# Altium schematic symbol library OV5640_SCH.SchLib: 16 symbols
Pins are listed as number, name and electrical type; pins without a type are passive.

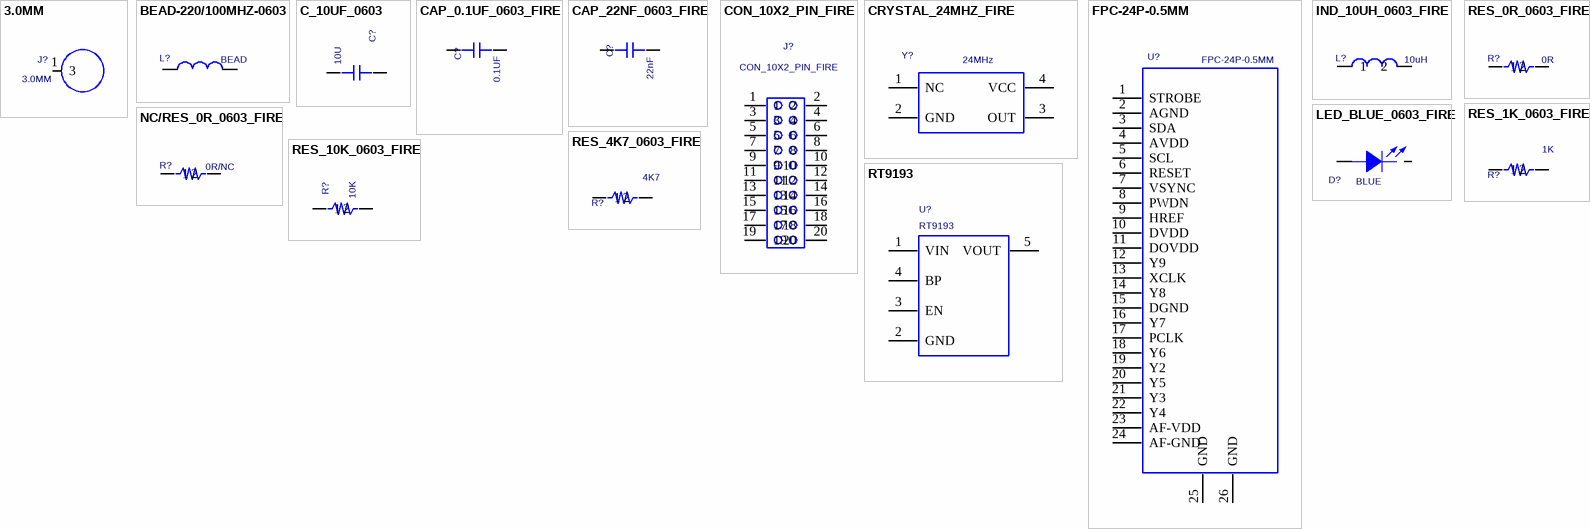
[diagram p0: symbols 3.0MM to RT9193]

## 3.0MM
designator J?
PCB DECAL: 3.0MM
footprint 3.0MM
pins: 1 3

## BEAD-220/100MHZ-0603
designator L?  value BEAD  (hidden comment: BEAD-220/100MHZ-0603)
0603,BEAD; PCB DECAL: CAP_0603_FIRE; Manufacturer #1 PN: BEAD
footprint CAP_0603_FIRE
pins: 1, 2

## C_10UF_0603
designator C?  value 10U  (hidden comment: C_10UF_0603)
PCB DECAL: CAP_0603_FIRE
footprint CAP_0603_FIRE
pins: 1, 2

## CAP_0.1UF_0603_FIRE
designator C?  value 0.1UF  (hidden comment: CAP_0.1UF_0603_FIRE)
0603; Manufacture 1 P/N: 0.1uF(0603); PCB DECAL: CAP_0603_FIRE
footprint CAP_0603_FIRE
pins: 1, 2

## CAP_22NF_0603_FIRE
designator C?  value 22nF  (hidden comment: CAP_22NF_0603_FIRE)
0603; Manufacture 1 P/N: 22nF(0603); PCB DECAL: CAP_0603_FIRE
footprint CAP_0603_FIRE
pins: 1, 2

## CON_10X2_PIN_FIRE
designator J?
10X2,pin,2.54mm; PCB DECAL: 20PIN2.54_SMD; Manufacture 1 P/N: 10X2,pin,2.54mm; Value: 10X2,pin,2.54mm
footprint 20PIN2.54_SMD
pins: 1, 2, 3, 4, 5, 6, 7, 8, 9, 10, 11, 12, 13, 14, 15, 16, 17, 18, 19, 20

## CRYSTAL_24MHZ_FIRE
designator Y?  value 24MHz  (hidden comment: CRYSTAL_24MHZ_FIRE)
24MHz; PCB DECAL: CRYSTAL_SMD3.2X2.5_FIRE; Manufacture 1 P/N: 24MHz
footprint CRYSTAL_SMD3.2X2.5_FIRE
pins: 1 NC, 2 GND, 3 OUT, 4 VCC

## FPC-24P-0.5MM
designator U?
Value: FPC-24P-OV5640; PCB DECAL: 24PIN0.5MMZUOZI2
footprint 24PIN0.5MMZUOZI2
pins: 1 STROBE, 2 AGND, 3 SDA, 4 AVDD, 5 SCL, 6 RESET, 7 VSYNC, 8 PWDN, 9 HREF, 10 DVDD, 11 DOVDD, 12 Y9, 13 XCLK, 14 Y8, 15 DGND, 16 Y7, 17 PCLK, 18 Y6, 19 Y2, 20 Y5, 21 Y3, 22 Y4, 23 AF-VDD, 24 AF-GND, 25 GND, 26 GND

## IND_10UH_0603_FIRE
designator L?  value 10uH  (hidden comment: IND_10UH_0603_FIRE)
0603; PCB DECAL: CAP_0603_FIRE; Manufacture 1 P/N: 10uH
footprint CAP_0603_FIRE
pins: 1, 2

## LED_BLUE_0603_FIRE
designator D?  value BLUE  (hidden comment: LED_BLUE_0603_FIRE)
blue,0603; PCB DECAL: LED_BLUE_0603_FIRE
footprint LED_BLUE_0603_FIRE
pins: A ANODE, K CATHODE

## NC/RES_0R_0603_FIRE
designator R?  value 0R/NC  (hidden comment: NC/RES_0R_0603_FIRE)
0603; Manufacture 1: SUPEROHM; Assembly: SMD; Tolerance: +-5%; PCB DECAL: CAP_0603_FIRE
footprint CAP_0603_FIRE
pins: 1, 2

## RES_0R_0603_FIRE
designator R?  value 0R  (hidden comment: RES_0R_0603_FIRE)
0603; Manufacture 1: SUPEROHM; Assembly: SMD; Tolerance: +-5%; PCB DECAL: CAP_0603_FIRE
footprint CAP_0603_FIRE
pins: 1, 2

## RES_1K_0603_FIRE
designator R?  value 1K  (hidden comment: RES_1K_0603_FIRE)
0603; Manufacture 1: SUPEROHM; Assembly: SMD; Tolerance: +-5%; PCB DECAL: CAP_0603_FIRE
footprint CAP_0603_FIRE
pins: 1, 2

## RES_4K7_0603_FIRE
designator R?  value 4K7  (hidden comment: RES_4K7_0603_FIRE)
0603; Manufacture 1: SUPEROHM; Assembly: SMD; Tolerance: +-5%; PCB DECAL: CAP_0603_FIRE
footprint CAP_0603_FIRE
pins: 1, 2

## RES_10K_0603_FIRE
designator R?  value 10K  (hidden comment: RES_10K_0603_FIRE)
0603; Manufacture 1: SUPEROHM; Assembly: SMD; Tolerance: +-5%; PCB DECAL: CAP_0603_FIRE
footprint CAP_0603_FIRE
pins: 1, 2

## RT9193
designator U?
PCB DECAL: SOT23-5
footprint SOT23-5
pins: 1 VIN (power), 2 GND (power), 3 EN, 4 BP, 5 VOUT (power)